# Altium schematic symbol library TPD4E02B04QDQARQ1.SchLib: 1 symbol
Pins are listed as number, name and electrical type; pins without a type are passive.

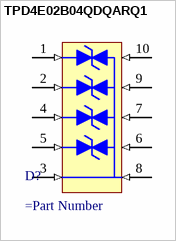
[diagram p0: symbol TPD4E02B04QDQARQ1]

## TPD4E02B04QDQARQ1
designator D?
=Description
pins: 1 IO1 (in), 2 IO2 (in), 3 GND (in), 4 IO3 (in), 5 IO4 (in), 6 NC (in), 7 NC (in), 8 GND (in), 9 NC (in), 10 NC (in)